# Altium schematic symbol library B58031U9254M062.SchLib: 1 symbol
Pins are listed as number, name and electrical type; pins without a type are passive.

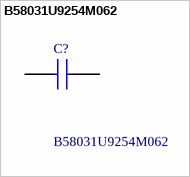
[diagram p0: symbol B58031U9254M062]

## B58031U9254M062
designator C?
Specialty Ceramic Capacitors 0.25uF 900volts Ceralink J-Lead; Manufacturer_Name: TDK; Geometry.Height: 4.5mm; Mouser Part Number: 871-B58031U9254M062; Mouser Price/Stock: https://www.mouser.co.uk/ProductDetail/EPCOS-TDK/B58031U9254M062?qs=Mv7BduZupUir5egwM6Ifng%3D%3D; Manufacturer_Part_Number: B58031U9254M062; Datasheet Link: https://product.tdk.com/system/files/dam/doc/product/capacitor/ceramic/ceralink/data_sheet/20/10/ds/b58031_lp.pdf
footprint B58031U9254M062
pins: 1, 2